# Altium footprint library TO.PcbLib: 7 footprints
Each footprint in its own frame and in the unit in brackets; x right, y up, seen from the top. Pads: shape width x height; smd on the part's side, far side on the other; paste and mask are expansions set on the pad; w line width, h text height; cw(c..) or ccw(c..) is an arc to the next point about the centre after c.
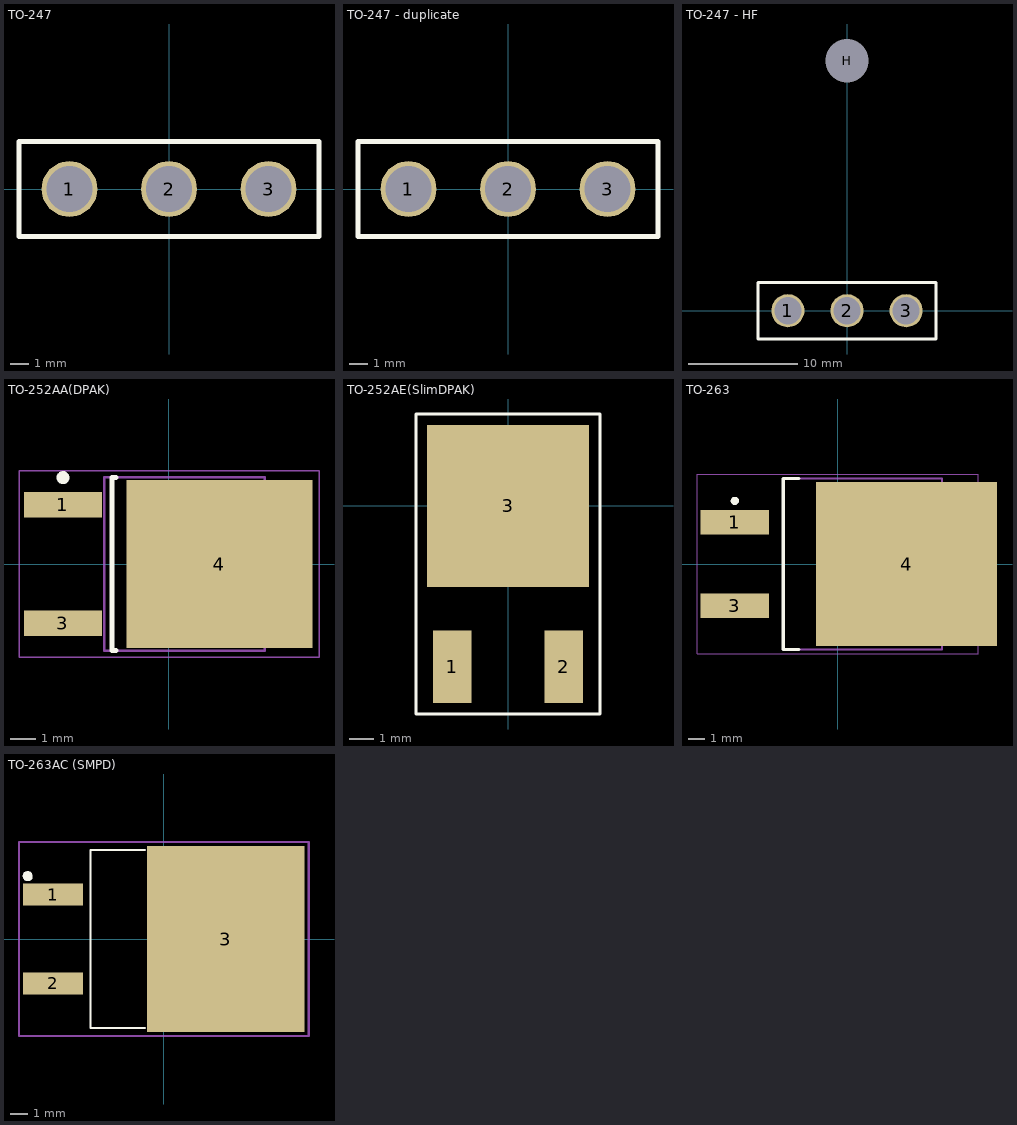
[diagram p0: the footprints below, top view; thin cyan lines are the x and y axes]

## TO-247 [mil]
height 984.25
pads (3):
  round 120 hole 98.43: 1(-214.17,0) 2(0,0) 3(214.17,0)
Top Overlay:
  lines w10: -322.83,-102.36 -322.83,102.36 322.83,102.36 322.83,-102.36 -322.83,-102.36
3D body: height 984.25, standoff 0, extent -322.81,-102.34 322.81,102.34

## TO-247 - duplicate [mil]
height 984.25
pads (3):
  round 120 hole 98.43: 1(-214.17,0) 2(0,0) 3(214.17,0)
Top Overlay:
  lines w10: -322.83,-102.36 -322.83,102.36 322.83,102.36 322.83,-102.36 -322.83,-102.36
3D body "TO-247.STEP": height 944.88, standoff -590.55, extent -305.11,-98.42 305.12,98.43

## TO-247 - HF [mil]
height 984.25
pads (4):
  round 120 hole 98.43: 1(-214.17,0) 2(0,0) 3(214.17,0)
  round 60 hole 157.48: H(0,905.51)
Top Overlay:
  lines w10: -322.83,-102.36 -322.83,102.36 322.83,102.36 322.83,-102.36 -322.83,-102.36
3D body "TO-247AC-HF.stp": height 208.66, standoff -190.78, extent -304.13,-16.72 319.89,1116.54

## TO-252AA(DPAK) [mm] "D-PAK, 3-Pads, Body 6.20x6.72mm (max), IPC Medium Density"
height 2.38
pads (3):
  rect 3x1 smd: 1(-4.1,2.29) 3(-4.1,-2.29)
  rect 7.2x6.5 smd: 4(1.95,0)
Top Overlay:
  circle w0.25: c-4.1,3.34 r0.125
  lines w0.2: -2.05,-3.35 -2.2,-3.35 -2.2,3.35 -2.05,3.35
Mechanical 13:
  lines w0.1: -2.5,-3.35 -2.5,3.35 3.7,3.35 3.7,-3.35 -2.5,-3.35
Mechanical 15:
  lines w0.05: -5.8,-3.6 -5.8,3.6 5.8,3.6 5.8,-3.6 -5.8,-3.6
  lines w0.1: -0.5,0 0.5,0 ; 0,-0.5 0,0.5
3D body "TO-252AA(DPAK).step": height 2.38, standoff 0, extent -4.57,-3.35 5.335,3.35

## TO-252AE(SlimDPAK) [mm]
height 1.4
pads (3):
  rect 1.6x3 smd: 1(-2.3,-6.65) 2(2.3,-6.65)
  rect 6.7x6.7 smd: 3(0,0)
Top Overlay:
  lines w0.127: -3.8,-8.6 -3.8,3.8 3.8,3.8 3.8,-8.6 -3.8,-8.6
3D body "SlimDpak.STEP": height 1.28, standoff -0.07, extent -3.1,-7.493 3.1,1.507

## TO-263 [mm]
height 4.83
pads (3):
  rect 4.15x1.5 smd: 1(-6.25,2.54) 3(-6.25,-2.54)
  rect 11x10 smd: 4(4.2,0)
Top Overlay:
  circle w0.25: c-6.25,3.84 r0.125
  lines w0.2: -2.35,-5.2 -3.3,-5.2 -3.3,5.2 -2.35,5.2
Mechanical 13:
  lines w0.1: -3.3,-5.2 6.35,-5.2 6.35,5.2 -3.3,5.2 -3.3,-5.2
Mechanical 15:
  lines w0.05: -8.55,-5.45 8.55,-5.45 8.55,5.45 -8.55,5.45 -8.55,-5.45
  lines w0.1: -0.5,0 0.5,0 ; 0,-0.5 0,0.5
3D body "TO-263.step": height 4.83, standoff 0, extent -6.76,-5.2 8.485,5.2

## TO-263AC (SMPD) [mil]
pads (3):
  rect 135x49.49 smd: 1(-250,100) 2(-250,-100)
  rect 355x420 smd: 3(140,0)
Top Overlay:
  circle w5: c-307.09,145.67 r3.94
  circle w5: c-311.02,145.67 r3.94
  circle w5: c-303.15,137.8 r3.94
  circle w5: c-307.09,141.73 r5.57
  circle w5: c-307.09,141.73 r8.8
  lines w5: -43.31,-200.79 -165.35,-200.79 -165.35,200.79 -43.31,200.79
Mechanical 16:
  lines w5: -326.77,-218.5 326.77,-218.5 326.77,218.5 -326.77,218.5 -326.77,-218.5
3D body "SMPD Package.STEP": height 66.93, standoff -0.19, extent -252.28,-196.3 242.92,197.41